# EAGLE library part LOGIC,TRANSLATOR:MC100ELT24(TTL-ECL) (library QuantumOptics)
MC100ELT24, On Semi, TTL to ECL translator, SOIC-8. Sorry, can't PECL it due to ±5V supplies.
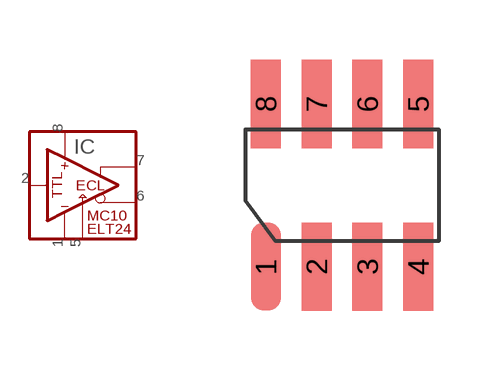
[diagram p32: symbol with the pads of SOIC-8; footprint SOIC-8]

Designator prefix IC

## LOGIC,TRANSLATOR:MC100ELT24(TTL-ECL)D  [SOIC-8]
1  VEE  in
2  IN  in
5  COM  in
6  ~Q  out
7  Q  out
8  VCC  in

## Footprint SOIC-8 (pad centres in mm)
SOIC-8 (AKA SO-8), pads on 0.050" grid.
smd 0.75 x 2.2: 1 -1.27,-2.032; 2 0,-2.032; 3 1.27,-2.032; 4 2.54,-2.032; 5 2.54,2.032; 6 1.27,2.032; 7 0,2.032; 8 -1.27,2.032